# Altium schematic symbol library TRAN FET.SchLib: 2 symbols
Pins are listed as number, name and electrical type; pins without a type are passive.

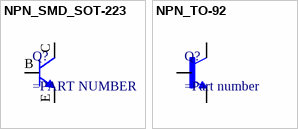
[diagram p0: symbols NPN_SMD_SOT-223 to NPN_TO-92]

## NPN_SMD_SOT-223
designator Q?
pins: B, C, E

## NPN_TO-92
designator Q?
pins: 1 C, 2 B, 3 E